# Altium integrated library Infineon_Power_MOSFET.IntLib: 1448 symbols (part 25 of 47)
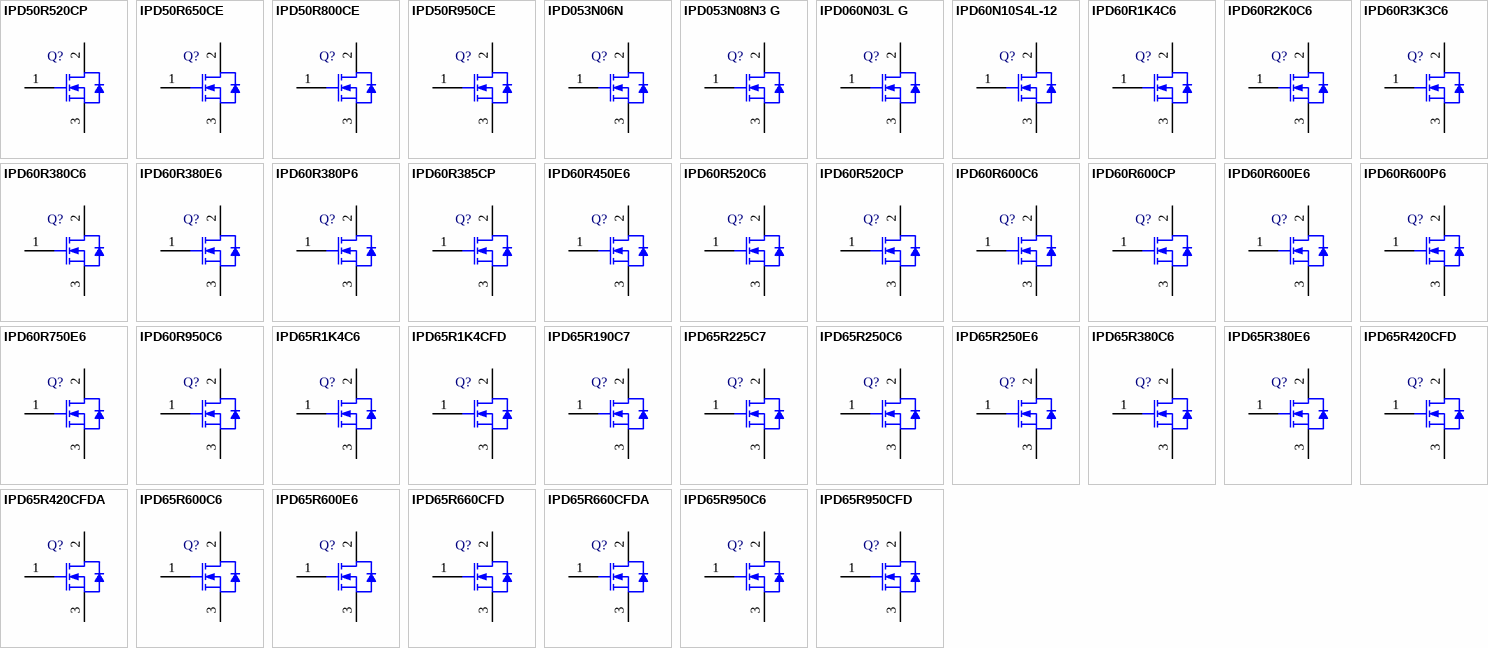
[diagram p61: symbols IPD50R520CP to IPD65R950CFD]

## IPD65R250E6
designator Q?
N-Channel CoolMOS E6 Power-Transistor, 650 V VDS, 16.1 A ID, -55 to 150 degC, PG-TO252-3-1, Reel, Green; Manufacturer: Infineon; PartNumber: IPD65R250E6; Green: TRUE; ID (max): 16.1 A; IDpuls (max): 46 A; Polarity: N; Ptot (max): 208 W; QG: 45 nC; RDS (on) (max): 250 mOhm; Rth: 0.6 K/W; RthJA (max): 62 K/W; VDS (max): 650 V; VGS(th) (max): 3.5 V; VGS(th) (min): 2.5 V; DatasheetVersion: Rev. 2.1; PackageVersion: Jan-10; PackageReference: PG-TO252-3-1; PackageDescription: 3-Pin Plastic (Green) Transistor Single Outline Package, 6.5 x 6.12 mm Body, 2.28 mm Pitch; Halogen-free: TRUE; Packing: Reel; RthJC (max): 0.6 K/W; Technology: CoolMOS E6; Mounting Technology: Surface Mount; ComponentLink1Description: Manufacturer URL; ComponentLink1URL: http://www.infineon.com/; ComponentLink2Description: Datasheet; ComponentLink2URL: http://www.infineon.com/dgdl/DS_IPD65R250E6_2_1.pdf?folderId=db3a3043156fd5730115c736bcc70ff2&fileId=db3a3043337a914d0133837a062760b2; ComponentLink3Description: Package Specification; ComponentLink3URL: http://www.infineon.com/dgdl/TLE42744_DS_11.pdf?folderId=db3a304318f3fe290118f5a433570040&fileId=db3a304327b897500128012ccafe37d2&sId=db3a30443d67b5ca013d83f7c0ea327b
footprint INF-PG-TO252-3-1_N (DPAK, 3-Leads, Body 6.525x6.12mm, Pitch 2.28mm, IPC Medium Density)
footprint INF-PG-TO252-3-1_L (DPAK, 3-Leads, Body 6.525x6.12mm, Pitch 2.28mm, IPC High Density)
footprint INF-PG-TO252-3-1_M (DPAK, 3-Leads, Body 6.525x6.12mm, Pitch 2.28mm, IPC Low Density)
pins: 1 GATE, 2 DRAIN, 3 SOURCE

## IPD65R380C6
designator Q?
N-Channel CoolMOS C6 Power-Transistor, 650 V VDS, 10.6 A ID, -55 to150 degC, PG-TO252-3-1, Reel, Green; Manufacturer: Infineon; PartNumber: IPD65R380C6; Green: TRUE; ID (max): 10.6 A; IDpuls (max): 29 A; Polarity: N; Ptot (max): 83 W; QG: 39 nC; RDS (on) (max): 380 mOhm; Rth: 1.5 K/W; RthJA (max): 62 K/W; VDS (max): 650 V; VGS(th) (max): 3.5 V; VGS(th) (min): 2.5 V; DatasheetVersion: Rev. 2.1; PackageVersion: Jan-10; PackageReference: PG-TO252-3-1; PackageDescription: 3-Pin Plastic (Green) Transistor Single Outline Package, 6.5 x 6.12 mm Body, 2.28 mm Pitch; Supplier 1: Mouser; Supplier Part Number 1: 726-IPD65R380C6; Supplier 2: Digi-Key; Supplier Part Number 2: IPD65R380C6TR-ND; Supplier 3: Digi-Key; Supplier Part Number 3: IPD65R380C6CT-ND; Supplier 4: Digi-Key; Supplier Part Number 4: IPD65R380C6DKR-ND; Packing: Reel; RthJC (max): 1.5 K/W; Technology: CoolMOS C6; Mounting Technology: Surface Mount; ComponentLink1Description: Manufacturer URL; ComponentLink1URL: http://www.infineon.com/; ComponentLink2Description: Datasheet; ComponentLink2URL: http://www.infineon.com/dgdl/IPD65R380C6+2.1.pdf?folderId=db3a3043163797a6011637d4bae7003b&fileId=db3a30432ba3fa6f012bf2b37bea77af; ComponentLink3Description: Package Specification; ComponentLink3URL: http://www.infineon.com/dgdl/TLE42744_DS_11.pdf?folderId=db3a304318f3fe290118f5a433570040&fileId=db3a304327b897500128012ccafe37d2&sId=db3a30443d67b5ca013d83f7c0ea327b
footprint INF-PG-TO252-3-1_N (DPAK, 3-Leads, Body 6.525x6.12mm, Pitch 2.28mm, IPC Medium Density)
footprint INF-PG-TO252-3-1_L (DPAK, 3-Leads, Body 6.525x6.12mm, Pitch 2.28mm, IPC High Density)
footprint INF-PG-TO252-3-1_M (DPAK, 3-Leads, Body 6.525x6.12mm, Pitch 2.28mm, IPC Low Density)
pins: 1 GATE, 2 DRAIN, 3 SOURCE

## IPD65R380E6
designator Q?
N-Channel CoolMOS E6 Power-Transistor, 650 V VDS, 10.6 A ID, -55 to150 degC, PG-TO252-3-1, Reel, Green; Manufacturer: Infineon; PartNumber: IPD65R380E6; Green: TRUE; ID (max): 10.6 A; IDpuls (max): 29 A; Polarity: N; Ptot (max): 83 W; QG: 39 nC; RDS (on) (max): 380 mOhm; Rth: 1.5 K/W; RthJA (max): 62 K/W; VDS (max): 650 V; VGS(th) (max): 3.5 V; VGS(th) (min): 2.5 V; DatasheetVersion: Rev. 2.0; PackageVersion: Jan-10; PackageReference: PG-TO252-3-1; PackageDescription: 3-Pin Plastic (Green) Transistor Single Outline Package, 6.5 x 6.12 mm Body, 2.28 mm Pitch; Supplier 1: Mouser; Supplier Part Number 1: 726-IPD65R380E6; Supplier 2: Digi-Key; Supplier Part Number 2: IPD65R380E6TR-ND; Supplier 3: Digi-Key; Supplier Part Number 3: IPD65R380E6CT-ND; Supplier 4: Digi-Key; Supplier Part Number 4: IPD65R380E6DKR-ND; Packing: Reel; RthJC (max): 1.5 K/W; Technology: CoolMOS E6; Mounting Technology: Surface Mount; ComponentLink1Description: Manufacturer URL; ComponentLink1URL: http://www.infineon.com/; ComponentLink2Description: Datasheet; ComponentLink2URL: http://www.infineon.com/dgdl/IPD65R380E6_2_0.pdf?folderId=db3a3043163797a6011637d4bae7003b&fileId=db3a304328c6bd5c012916c7dabd333f; ComponentLink3Description: Package Specification; ComponentLink3URL: http://www.infineon.com/dgdl/TLE42744_DS_11.pdf?folderId=db3a304318f3fe290118f5a433570040&fileId=db3a304327b897500128012ccafe37d2&sId=db3a30443d67b5ca013d83f7c0ea327b
footprint INF-PG-TO252-3-1_N (DPAK, 3-Leads, Body 6.525x6.12mm, Pitch 2.28mm, IPC Medium Density)
footprint INF-PG-TO252-3-1_L (DPAK, 3-Leads, Body 6.525x6.12mm, Pitch 2.28mm, IPC High Density)
footprint INF-PG-TO252-3-1_M (DPAK, 3-Leads, Body 6.525x6.12mm, Pitch 2.28mm, IPC Low Density)
pins: 1 GATE, 2 DRAIN, 3 SOURCE

## IPD65R420CFD
designator Q?
N-Channel CoolMOS Power-Transistor, 650 V VDS, 8.7 A ID, -55 to 150 degC, PG-TO252-3-1, Reel, Green; Manufacturer: Infineon; PartNumber: IPD65R420CFD; Green: TRUE; ID (max): 8.7 A; IDpuls (max): 27 A; Polarity: N; QG: 32 nC; RDS (on) (max): 420 mOhm; Rth: 1.5 K/W; RthJA (max): 62 K/W; VDS (max): 650 V; VGS(th) (max): 4.5 V; VGS(th) (min): 3.5 V; DatasheetVersion: Rev. 2.4; PackageVersion: Jan-10; PackageReference: PG-TO252-3-1; PackageDescription: 3-Pin Plastic (Green) Transistor Single Outline Package, 6.5 x 6.12 mm Body, 2.28 mm Pitch; Supplier 1: Mouser; Supplier Part Number 1: 726-IPD65R420CFD; Supplier 2: Digi-Key; Supplier Part Number 2: IPD65R420CFDTR-ND; Supplier 3: Digi-Key; Supplier Part Number 3: IPD65R420CFDCT-ND; Supplier 4: Digi-Key; Supplier Part Number 4: IPD65R420CFDDKR-ND; Packing: Reel; RthJC (max): 1.5 K/W; Technology: CoolMOS CFD2; Mounting Technology: Surface Mount; ComponentLink1Description: Manufacturer URL; ComponentLink1URL: http://www.infineon.com/; ComponentLink2Description: Datasheet; ComponentLink2URL: http://www.infineon.com/dgdl/DS_IPX65R420CFD_2_4.pdf?folderId=db3a3043156fd5730115c736bcc70ff2&fileId=db3a30432f91014f012f9c293f1a7399; ComponentLink3Description: Package Specification; ComponentLink3URL: http://www.infineon.com/dgdl/TLE42744_DS_11.pdf?folderId=db3a304318f3fe290118f5a433570040&fileId=db3a304327b897500128012ccafe37d2&sId=db3a30443d67b5ca013d83f7c0ea327b
footprint INF-PG-TO252-3-1_N (DPAK, 3-Leads, Body 6.525x6.12mm, Pitch 2.28mm, IPC Medium Density)
footprint INF-PG-TO252-3-1_L (DPAK, 3-Leads, Body 6.525x6.12mm, Pitch 2.28mm, IPC High Density)
footprint INF-PG-TO252-3-1_M (DPAK, 3-Leads, Body 6.525x6.12mm, Pitch 2.28mm, IPC Low Density)
pins: 1 GATE, 2 DRAIN, 3 SOURCE

## IPD65R420CFDA
designator Q?
N-Channel CoolMOS(TM) CFDA Power Transistor, 650 V VDS, -40 to 150 degC, PG-TO252-3, Reel, Green; Manufacturer: Infineon; PartNumber: IPD65R420CFDA; Green: TRUE; Polarity: FALSE; RDS (on) (max): 420 mOhm; VDS (max): 650 V; DatasheetVersion: Rev. 2.0; PackageVersion: Rev. 2.2, 04/2007; PackageReference: PG-TO252-3-1_A; PackageDescription: 3-Pin Plastic (Green) Transistor Single Outline Package, 6.565 x 6.1 mm, 2.28 mm Pitch; Halogen-free: TRUE; Packing: Reel; Mounting Technology: Surface Mount; ComponentLink1Description: Manufacturer URL; ComponentLink1URL: http://www.infineon.com/; ComponentLink2Description: Datasheet; ComponentLink2URL: http://www.infineon.com/dgdl/DS_IPD65R420CFDA_final+2+0.pdf?folderId=db3a3043156fd5730115c736bcc70ff2&fileId=db3a30433ea3aef6013eac59c2420dff; ComponentLink3Description: Package Specification; ComponentLink3URL: http://www.infineon.com/dgdl/IDD03E60Grev2_2.pdf?folderId=db3a304412b407950112b438b4176b74&fileId=db3a304412b407950112b438b49f6b75
footprint INF-PG-TO252-3-1_A_N (DPAK, 3-Leads, Body 6.565x6.1mm, Pitch 2.28mm, IPC Medium Density)
footprint INF-PG-TO252-3-1_A_L (DPAK, 3-Leads, Body 6.565x6.095mm, Pitch 2.29mm, IPC High Density)
footprint INF-PG-TO252-3-1_A_M (DPAK, 3-Leads, Body 6.565x6.095mm, Pitch 2.29mm, IPC Low Density)
pins: 1 GATE, 2 DRAIN, 3 SOURCE

## IPD65R600C6
designator Q?
N-Channel CoolMOS C6 Power-Transistor, 650 V VDS, 7.3 A ID, -55 to 150 degC, PG-TO252-3-1, Reel, Green; Manufacturer: Infineon; PartNumber: IPD65R600C6; Green: TRUE; ID (max): 7.3 A; IDpuls (max): 18 A; Polarity: N; Ptot (max): 63 W; QG: 23 nC; RDS (on) (max): 600 mOhm; Rth: 2 K/W; RthJA (max): 62 K/W; VDS (max): 650 V; VGS(th) (max): 3.5 V; VGS(th) (min): 2.5 V; DatasheetVersion: Rev. 2.0; PackageVersion: Jan-10; PackageReference: PG-TO252-3-1; PackageDescription: 3-Pin Plastic (Green) Transistor Single Outline Package, 6.5 x 6.12 mm Body, 2.28 mm Pitch; Supplier 1: Mouser; Supplier Part Number 1: 726-IPD65R600C6; Supplier 2: Digi-Key; Supplier Part Number 2: IPD65R600C6TR-ND; Supplier 3: Digi-Key; Supplier Part Number 3: IPD65R600C6CT-ND; Supplier 4: Digi-Key; Supplier Part Number 4: IPD65R600C6DKR-ND; Packing: Reel; RthJC (max): 2 K/W; Technology: CoolMOS C6; Mounting Technology: Surface Mount; ComponentLink1Description: Manufacturer URL; ComponentLink1URL: http://www.infineon.com/; ComponentLink2Description: Datasheet; ComponentLink2URL: http://www.infineon.com/dgdl/IPD65R600C6_2_0.pdf?folderId=db3a3043163797a6011637d4bae7003b&fileId=db3a30432ac1eb91012ac73a59602c4f; ComponentLink3Description: Package Specification; ComponentLink3URL: http://www.infineon.com/dgdl/TLE42744_DS_11.pdf?folderId=db3a304318f3fe290118f5a433570040&fileId=db3a304327b897500128012ccafe37d2&sId=db3a30443d67b5ca013d83f7c0ea327b
footprint INF-PG-TO252-3-1_N (DPAK, 3-Leads, Body 6.525x6.12mm, Pitch 2.28mm, IPC Medium Density)
footprint INF-PG-TO252-3-1_L (DPAK, 3-Leads, Body 6.525x6.12mm, Pitch 2.28mm, IPC High Density)
footprint INF-PG-TO252-3-1_M (DPAK, 3-Leads, Body 6.525x6.12mm, Pitch 2.28mm, IPC Low Density)
pins: 1 GATE, 2 DRAIN, 3 SOURCE

## IPD65R600E6
designator Q?
N-Channel CoolMOS E6 Power-Transistor, 650 V VDS, 7.3 A ID, -55 to 150 degC, PG-TO252-3-1, Reel, Green; Manufacturer: Infineon; PartNumber: IPD65R600E6; Green: TRUE; ID (max): 7.3 A; IDpuls (max): 18 A; Polarity: N; Ptot (max): 63 W; QG: 23 nC; RDS (on) (max): 600 mOhm; Rth: 2 K/W; RthJA (max): 62 K/W; VDS (max): 650 V; VGS(th) (max): 3.5 V; VGS(th) (min): 2.5 V; DatasheetVersion: Rev. 2.0; PackageVersion: Jan-10; PackageReference: PG-TO252-3-1; PackageDescription: 3-Pin Plastic (Green) Transistor Single Outline Package, 6.5 x 6.12 mm Body, 2.28 mm Pitch; Supplier 1: Mouser; Supplier Part Number 1: 726-IPD65R600E6; Supplier 2: Digi-Key; Supplier Part Number 2: IPD65R600E6TR-ND; Supplier 3: Digi-Key; Supplier Part Number 3: IPD65R600E6CT-ND; Supplier 4: Digi-Key; Supplier Part Number 4: IPD65R600E6DKR-ND; Halogen-free: TRUE; Packing: Reel; RthJC (max): 2 K/W; Technology: CoolMOS E6; Mounting Technology: Surface Mount; ComponentLink1Description: Manufacturer URL; ComponentLink1URL: http://www.infineon.com/; ComponentLink2Description: Datasheet; ComponentLink2URL: http://www.infineon.com/dgdl/IPD65R600E6_2_0.pdf?folderId=db3a3043163797a6011637d4bae7003b&fileId=db3a304329a0f6ee0129d1652ab10630; ComponentLink3Description: Package Specification; ComponentLink3URL: http://www.infineon.com/dgdl/TLE42744_DS_11.pdf?folderId=db3a304318f3fe290118f5a433570040&fileId=db3a304327b897500128012ccafe37d2&sId=db3a30443d67b5ca013d83f7c0ea327b
footprint INF-PG-TO252-3-1_N (DPAK, 3-Leads, Body 6.525x6.12mm, Pitch 2.28mm, IPC Medium Density)
footprint INF-PG-TO252-3-1_L (DPAK, 3-Leads, Body 6.525x6.12mm, Pitch 2.28mm, IPC High Density)
footprint INF-PG-TO252-3-1_M (DPAK, 3-Leads, Body 6.525x6.12mm, Pitch 2.28mm, IPC Low Density)
pins: 1 GATE, 2 DRAIN, 3 SOURCE

## IPD65R660CFD
designator Q?
N-Channel CoolMOS CFD2 Power-Transistor, 650 V VDS, 6 A ID, -55 to 150 degC, PG-TO252-3-1, Reel, Green; Manufacturer: Infineon; PartNumber: IPD65R660CFD; Green: TRUE; ID (max): 6 A; IDpuls (max): 17 A; Polarity: N; Ptot (max): 62.5 W; QG: 22 nC; RDS (on) (max): 660 mOhm; Rth: 2 K/W; RthJA (max): 62 K/W; VDS (max): 650 V; VGS(th) (max): 4.5 V; VGS(th) (min): 3.5 V; DatasheetVersion: Rev. 2.5; PackageVersion: Jan-10; PackageReference: PG-TO252-3-1; PackageDescription: 3-Pin Plastic (Green) Transistor Single Outline Package, 6.5 x 6.12 mm Body, 2.28 mm Pitch; Supplier 1: Mouser; Supplier Part Number 1: 726-IPD65R660CFD; Supplier 2: Digi-Key; Supplier Part Number 2: IPD65R660CFD-ND; Packing: Reel; RthJC (max): 2 K/W; Technology: CoolMOS CFD2; Mounting Technology: Surface Mount; ComponentLink1Description: Manufacturer URL; ComponentLink1URL: http://www.infineon.com/; ComponentLink2Description: Datasheet; ComponentLink2URL: http://www.infineon.com/dgdl/DS_IPX65R660CFD_2_5.pdf?folderId=db3a3043163797a6011637d4e912003c&fileId=db3a30432e0bea21012e14dccc656df9; ComponentLink3Description: Package Specification; ComponentLink3URL: http://www.infineon.com/dgdl/TLE42744_DS_11.pdf?folderId=db3a304318f3fe290118f5a433570040&fileId=db3a304327b897500128012ccafe37d2&sId=db3a30443d67b5ca013d83f7c0ea327b
footprint INF-PG-TO252-3-1_N (DPAK, 3-Leads, Body 6.525x6.12mm, Pitch 2.28mm, IPC Medium Density)
footprint INF-PG-TO252-3-1_L (DPAK, 3-Leads, Body 6.525x6.12mm, Pitch 2.28mm, IPC High Density)
footprint INF-PG-TO252-3-1_M (DPAK, 3-Leads, Body 6.525x6.12mm, Pitch 2.28mm, IPC Low Density)
pins: 1 GATE, 2 DRAIN, 3 SOURCE

## IPD65R660CFDA
designator Q?
N-Channel CoolMOS(TM) CFDA Power Transistor, 650 V VDS, -40 to 150 degC, PG-TO252-3, Reel, Green; Manufacturer: Infineon; PartNumber: IPD65R660CFDA; Green: TRUE; Polarity: FALSE; RDS (on) (max): 660 mOhm; VDS (max): 650 V; DatasheetVersion: Rev. 2.0; PackageVersion: Rev. 2.2, 04/2007; PackageReference: PG-TO252-3-1_A; PackageDescription: 3-Pin Plastic (Green) Transistor Single Outline Package, 6.565 x 6.1 mm, 2.28 mm Pitch; Halogen-free: TRUE; Packing: Reel; Mounting Technology: Surface Mount; ComponentLink1Description: Manufacturer URL; ComponentLink1URL: http://www.infineon.com/; ComponentLink2Description: Datasheet; ComponentLink2URL: http://www.infineon.com/dgdl/DS_IPD65R660CFDA_final+2+0.pdf?folderId=db3a3043156fd5730115c736bcc70ff2&fileId=db3a30433f764301013f7bd7d66028c6; ComponentLink3Description: Package Specification; ComponentLink3URL: http://www.infineon.com/dgdl/IDD03E60Grev2_2.pdf?folderId=db3a304412b407950112b438b4176b74&fileId=db3a304412b407950112b438b49f6b75
footprint INF-PG-TO252-3-1_A_N (DPAK, 3-Leads, Body 6.565x6.1mm, Pitch 2.28mm, IPC Medium Density)
footprint INF-PG-TO252-3-1_A_L (DPAK, 3-Leads, Body 6.565x6.095mm, Pitch 2.29mm, IPC High Density)
footprint INF-PG-TO252-3-1_A_M (DPAK, 3-Leads, Body 6.565x6.095mm, Pitch 2.29mm, IPC Low Density)
pins: 1 GATE, 2 DRAIN, 3 SOURCE

## IPD65R950C6
designator Q?
N-Channel CoolMOS(TM) C6 Power Transistor, 650 V VDS, -55 to 150 degC, PG-TO252-3, Reel, Green; Manufacturer: Infineon; PartNumber: IPD65R950C6; Green: TRUE; Polarity: FALSE; RDS (on) (max): 950 mOhm; VDS (max): 650 V; DatasheetVersion: Rev. 2.0; PackageVersion: Rev. 2.2, 04/2007; PackageReference: PG-TO252-3-1_A; PackageDescription: 3-Pin Plastic (Green) Transistor Single Outline Package, 6.565 x 6.1 mm, 2.28 mm Pitch; Supplier 1: Mouser; Supplier Part Number 1: N/A; Halogen-free: TRUE; Packing: Reel; Mounting Technology: Surface Mount; ComponentLink1Description: Manufacturer URL; ComponentLink1URL: http://www.infineon.com/; ComponentLink2Description: Datasheet; ComponentLink2URL: http://www.infineon.com/dgdl/DS_IPD65R950C6_2_0.pdf?folderId=db3a3043156fd5730115c736bcc70ff2&fileId=db3a304340155f3d014034e6f48e4b94; ComponentLink3Description: Package Specification; ComponentLink3URL: http://www.infineon.com/dgdl/IDD03E60Grev2_2.pdf?folderId=db3a304412b407950112b438b4176b74&fileId=db3a304412b407950112b438b49f6b75
footprint INF-PG-TO252-3-1_A_N (DPAK, 3-Leads, Body 6.565x6.1mm, Pitch 2.28mm, IPC Medium Density)
footprint INF-PG-TO252-3-1_A_L (DPAK, 3-Leads, Body 6.565x6.095mm, Pitch 2.29mm, IPC High Density)
footprint INF-PG-TO252-3-1_A_M (DPAK, 3-Leads, Body 6.565x6.095mm, Pitch 2.29mm, IPC Low Density)
pins: 1 GATE, 2 DRAIN, 3 SOURCE

## IPD65R950CFD
designator Q?
N-Channel CoolMOS CFD2 Power-Transistor, 650 V VDS, 3.9 A ID, -55 to 150 degC, PG-TO252-3-1, Reel, Green; Manufacturer: Infineon; PartNumber: IPD65R950CFD; Green: TRUE; ID (max): 3.9 A; IDpuls (max): 11 A; Polarity: N; Ptot (max): 36.7 W; QG: 14.1 nC; RDS (on) (max): 950 mOhm; Rth: 3.4 K/W; RthJA (max): 62 K/W; VDS (max): 650 V; VGS(th) (max): 4.5 V; VGS(th) (min): 3.5 V; DatasheetVersion: Rev. 2.0; PackageVersion: Jan-10; PackageReference: PG-TO252-3-1; PackageDescription: 3-Pin Plastic (Green) Transistor Single Outline Package, 6.5 x 6.12 mm Body, 2.28 mm Pitch; Packing: Reel; RthJC (max): 3.4 K/W; Technology: CoolMOS CFD2; Mounting Technology: Surface Mount; ComponentLink1Description: Manufacturer URL; ComponentLink1URL: http://www.infineon.com/; ComponentLink2Description: Datasheet; ComponentLink2URL: http://www.infineon.com/dgdl/DS_IPD65R950CFD_2_0.pdf?folderId=db3a30432313ff5e0123a8557b1c5ba2&fileId=db3a3043397b22f00139902e85ae4bd3; ComponentLink3Description: Package Specification; ComponentLink3URL: http://www.infineon.com/dgdl/TLE42744_DS_11.pdf?folderId=db3a304318f3fe290118f5a433570040&fileId=db3a304327b897500128012ccafe37d2&sId=db3a30443d67b5ca013d83f7c0ea327b
footprint INF-PG-TO252-3-1_N (DPAK, 3-Leads, Body 6.525x6.12mm, Pitch 2.28mm, IPC Medium Density)
footprint INF-PG-TO252-3-1_L (DPAK, 3-Leads, Body 6.525x6.12mm, Pitch 2.28mm, IPC High Density)
footprint INF-PG-TO252-3-1_M (DPAK, 3-Leads, Body 6.525x6.12mm, Pitch 2.28mm, IPC Low Density)
pins: 1 GATE, 2 DRAIN, 3 SOURCE

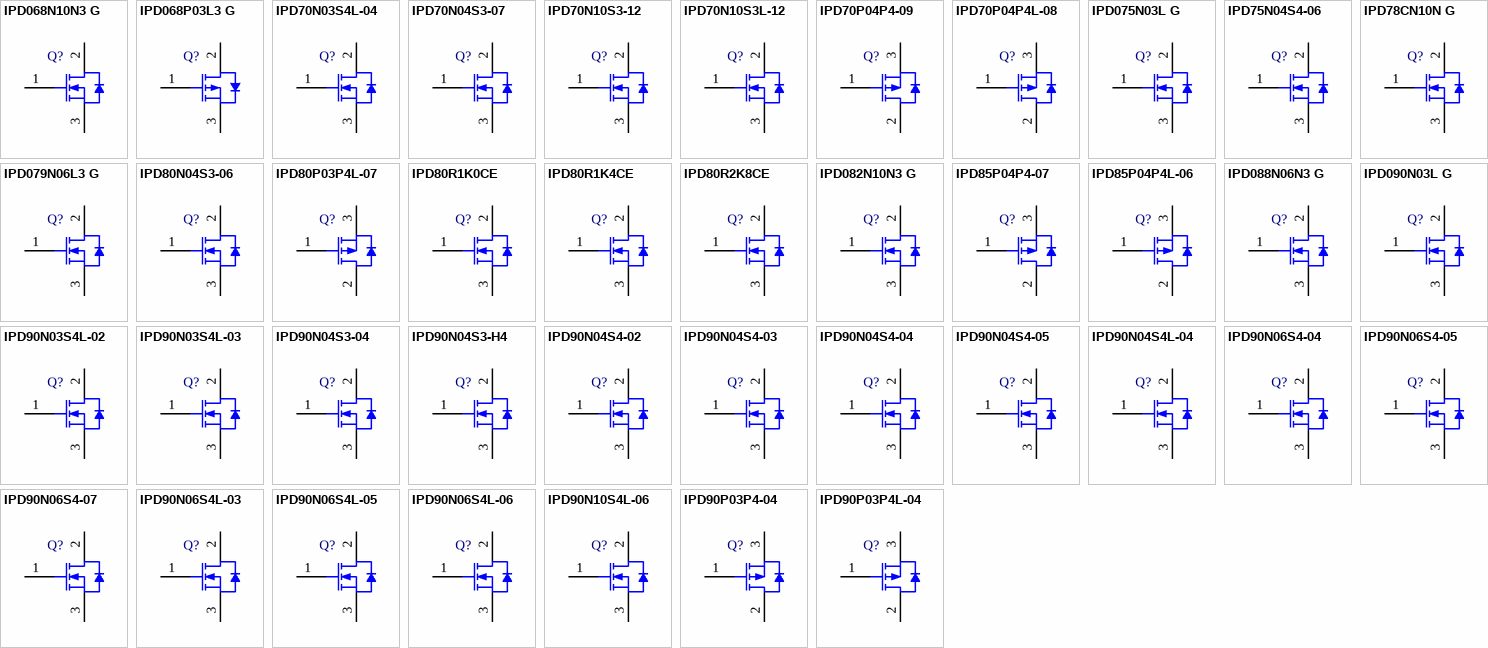
[diagram p19: symbols IPD068N10N3 G to IPD90P03P4L-04]

## IPD068N10N3 G
designator Q?
N-Channel OptiMOS 3 Power-Transistor, 100 V VDS, 90 A ID, -55 to 175 degC, PG-TO252-3-11, Reel, Green; Manufacturer: Infineon; PartNumber: IPD068N10N3 G; Green: TRUE; ID (max): 90 A; IDpuls (max): 360 A; Polarity: N; Ptot (max): 150 W; QG: 51 nC; RDS (on) (max): 6.8 mOhm; Rth: 1 K/W; RthJA (max): 62 K/W; RthJC (max): 1 K/W; VDS (max): 100 V; VGS(th) (max): 3.5 V; VGS(th) (min): 2 V; DatasheetVersion: Rev. 2.1; PackageVersion: Rev. 02, 03/2007; PackageReference: PG-TO252-3-11; PackageDescription: 3-Pin Plastic (Green) Transistor Single Outline Package, 6.57 x 6.1 mm Body, 2.29 mm Pitch; Supplier 1: Mouser; Supplier Part Number 1: 726-IPD068N10N3G; Supplier 2: Digi-Key; Supplier Part Number 2: IPD068N10N3 G-ND; Packing: Reel; Mounting Technology: Surface Mount; ComponentLink1Description: Manufacturer URL; ComponentLink1URL: http://www.infineon.com/; ComponentLink2Description: Datasheet; ComponentLink2URL: http://www.infineon.com/dgdl/IPD068N10N3+G_Rev2.1.pdf?folderId=db3a304313b8b5a60113cee8763b02d7&fileId=db3a30431ce5fb52011d1eb7aeb615d1; ComponentLink3Description: Package Specification; ComponentLink3URL: http://www.infineon.com/dgdl/IPD160N04L_rev1.0.pdf?folderId=db3a3043163797a6011643468e7505a4&fileId=db3a3043163797a60116436401cf05cf
footprint INF-PG-TO252-3-11_A_N (DPAK, 3-Leads, Body 6.57x6.1mm, Pitch 2.29mm, IPC Medium Density)
footprint INF-PG-TO252-3-11_A_L (DPAK, 3-Leads, Body 6.57x6.1mm, Pitch 2.29mm, IPC High Density)
footprint INF-PG-TO252-3-11_A_M (DPAK, 3-Leads, Body 6.57x6.1mm, Pitch 2.29mm, IPC Low Density)
pins: 1 GATE, 2 DRAIN, 3 SOURCE

## IPD068P03L3 G
designator Q?
P-Channel OptiMOS P3 Power-Transistor, -30 V VDS, -70 A ID, -55 to 175 degC, PG-TO252-3-1, Reel, Green; Manufacturer: Infineon; PartNumber: IPD068P03L3 G; Green: TRUE; ID (max): -70 A; IDpuls (max): -280 A; Pto t (max): 100 W; QG: 68 nC; RDS (on) (max): 6.8 mOhm; RDS (on) (max) (@4.5V): 11 mOhm; Rth: 1.5 K/W; RthJC (max): 1.5 K/W; VDS (max): -30 V; VGS(th) (max): -2 V; VGS(th) (min): -1 V; DatasheetVersion: Rev. 2.0; PackageVersion: Jan-10; PackageReference: PG-TO252-3-1; PackageDescription: 3-Pin Plastic (Green) Transistor Single Outline Package, 6.5 x 6.12 mm Body, 2.28 mm Pitch; Supplier 1: Mouser; Supplier Part Number 1: 726-IPD068P03L3G; Supplier 2: Digi-Key; Supplier Part Number 2: IPD068P03L3 GTR-ND; Supplier 3: Digi-Key; Supplier Part Number 3: IPD068P03L3 GCT-ND; Supplier 4: Digi-Key; Supplier Part Number 4: IPD068P03L3 GDKR-ND; Packing: Reel; Mounting Technology: Surface Mount; ComponentLink1Description: Manufacturer URL; ComponentLink1URL: http://www.infineon.com/; ComponentLink2Description: Datasheet; ComponentLink2URL: http://www.infineon.com/dgdl/IPD068P03L3+G_2+0.pdf?folderId=db3a304314dca38901154a7313d21a66&fileId=db3a30432313ff5e01232cc234f07d94; ComponentLink3Description: Package Specification; ComponentLink3URL: http://www.infineon.com/dgdl/TLE42744_DS_11.pdf?folderId=db3a304318f3fe290118f5a433570040&fileId=db3a304327b897500128012ccafe37d2&sId=db3a30443d67b5ca013d83f7c0ea327b
footprint INF-PG-TO252-3-1_N (DPAK, 3-Leads, Body 6.525x6.12mm, Pitch 2.28mm, IPC Medium Density)
footprint INF-PG-TO252-3-1_L (DPAK, 3-Leads, Body 6.525x6.12mm, Pitch 2.28mm, IPC High Density)
footprint INF-PG-TO252-3-1_M (DPAK, 3-Leads, Body 6.525x6.12mm, Pitch 2.28mm, IPC Low Density)
pins: 1 GATE, 2 DRAIN, 3 SOURCE

## IPD70N03S4L-04
designator Q?
OptiMOS-T2 Power-Transistor, 30 V VDS, 70 A ID, PG-TO252-3-11, Reel, Green; Manufacturer: Infineon; PartNumber: IPD70N03S4L-04; Green: TRUE; ID (max): 70 A; IDpuls (max): 280 A; Ptot (max): 68 W; QG: 37 nC; RDS (on) (max) (@10V): 4.3 mOhm; RDS (on) (max) (@4.5V): 5.7 mOhm; RthJC (max): 2.2 K/W; VDS (max): 30 V; VGS(th) (max): 2.2 V; VGS(th) (min): 1 V; DatasheetVersion: Rev. 2.0; PackageVersion: Dec-06; PackageReference: PG-TO252-3-11; PackageDescription: 3-Pin Plastic (Green) Transistor Single Outline Package, 6.5 x 6.12 mm Body, 2.28 mm Pitch; Supplier 1: Mouser; Supplier Part Number 1: 726-IPD70N03S4L-04; Supplier 2: Digi-Key; Supplier Part Number 2: IPD70N03S4L-04TR-ND; Supplier 3: Digi-Key; Supplier Part Number 3: IPD70N03S4L-04CT-ND; Supplier 4: Digi-Key; Supplier Part Number 4: IPD70N03S4L-04DKR-ND; Halogen-free: TRUE; Packing: Reel; Technology: OptiMOS-T2; Mounting Technology: Surface Mount; ComponentLink1Description: Manufacturer URL; ComponentLink1URL: http://www.infineon.com/; ComponentLink2Description: Datasheet; ComponentLink2URL: http://www.infineon.com/dgdl/IPD70N03S4L-04_DS_2_0.pdf?folderId=db3a304412b407950112b426f7da3b27&fileId=db3a304412b407950112b4271cfb3b9f&location=en.Products.Automotive_ICs.Automotive_MOSFETs.Single__N-Channel_30V_MOSFETs.DATASHEET.IPD70N03S4L-04_DS_2_0.pdf; ComponentLink3Description: Package Specification; ComponentLink3URL: http://www.infineon.com/dgdl/BTS142_DS_13.pdf?folderId=db3a3043163797a6011667aa084c0e01&fileId=db3a3043163797a6011667ac98be0e02&location=en.Products.Automotive_ICs.Smart_High-_and_Low-Side_Switches.HITFET___TEMPFET__-_Smart_Low-Side_Switches.DATASHEET.BTS142_DS_13.pdf
footprint INF-PG-TO252-3-11_N (DPAK, 3-Leads, Body 6.5x6.12mm, Pitch 2.28mm, IPC Medium Density)
footprint INF-PG-TO252-3-11_L (DPAK, 3-Leads, Body 6.5x6.12mm, Pitch 2.28mm, IPC High Density)
footprint INF-PG-TO252-3-11_M (DPAK, 3-Leads, Body 6.5x6.12mm, Pitch 2.28mm, IPC Low Density)
pins: 1 GATE, 2 DRAIN, 3 SOURCE

## IPD70N04S3-07
designator Q?
OptiMOS-T Power-Transistor, 40 V VDS, 82 A ID, PG-TO252-3-11, Reel, Green; Manufacturer: Infineon; PartNumber: IPD70N04S3-07; Green: TRUE; ID (max): 82 A; IDpuls (max): 280 A; Ptot (max): 79 W; QG: 30 nC; RDS (on) (max) (@10V): 6 mOhm; RthJC (max): 1.9 K/W; VDS (max): 40 V; VGS(th) (max): 4 V; VGS(th) (min): 2.1 V; DatasheetVersion: Rev. 1.0; PackageVersion: Dec-06; PackageReference: PG-TO252-3-11; PackageDescription: 3-Pin Plastic (Green) Transistor Single Outline Package, 6.5 x 6.12 mm Body, 2.28 mm Pitch; Supplier 1: Mouser; Supplier Part Number 1: 726-IPD70N04S3-07; Supplier 2: Digi-Key; Supplier Part Number 2: IPD70N04S3-07TR-ND; Supplier 3: Digi-Key; Supplier Part Number 3: IPD70N04S3-07CT-ND; Supplier 4: Digi-Key; Supplier Part Number 4: IPD70N04S3-07DKR-ND; Halogen-free: TRUE; Packing: Reel; Technology: OptiMOS-T; Mounting Technology: Surface Mount; ComponentLink1Description: Manufacturer URL; ComponentLink1URL: http://www.infineon.com/; ComponentLink2Description: Datasheet; ComponentLink2URL: http://www.infineon.com/dgdl/IPD70N04S3-07_DS_1_0.pdf?folderId=db3a304412b407950112b42b75b74520&fileId=db3a304412b407950112b42ba99545d0&location=en.Products.Automotive_ICs.Automotive_MOSFETs.Single__N-Channel_40V_MOSFETs.DATASHEET.IPD70N04S3-07_DS_1_0.pdf; ComponentLink3Description: Package Specification; ComponentLink3URL: http://www.infineon.com/dgdl/BTS142_DS_13.pdf?folderId=db3a3043163797a6011667aa084c0e01&fileId=db3a3043163797a6011667ac98be0e02&location=en.Products.Automotive_ICs.Smart_High-_and_Low-Side_Switches.HITFET___TEMPFET__-_Smart_Low-Side_Switches.DATASHEET.BTS142_DS_13.pdf
footprint INF-PG-TO252-3-11_N (DPAK, 3-Leads, Body 6.5x6.12mm, Pitch 2.28mm, IPC Medium Density)
footprint INF-PG-TO252-3-11_L (DPAK, 3-Leads, Body 6.5x6.12mm, Pitch 2.28mm, IPC High Density)
footprint INF-PG-TO252-3-11_M (DPAK, 3-Leads, Body 6.5x6.12mm, Pitch 2.28mm, IPC Low Density)
pins: 1 GATE, 2 DRAIN, 3 SOURCE

## IPD70N10S3-12
designator Q?
OptiMOS-T Power-Transistor, 100 V VDS, 70 A ID, PG-TO252-3-11, Reel, Green; Manufacturer: Infineon; PartNumber: IPD70N10S3-12; Green: TRUE; ID (max): 70 A; IDpuls (max): 280 A; Ptot (max): 125 W; QG: 51 nC; RDS (on) (max) (@10V): 11.1 mOhm; RthJC (max): 1.2 K/W; VDS (max): 100 V; VGS(th) (max): 4 V; VGS(th) (min): 2 V; DatasheetVersion: Rev. 1.1; PackageVersion: Dec-06; PackageReference: PG-TO252-3-11; PackageDescription: 3-Pin Plastic (Green) Transistor Single Outline Package, 6.5 x 6.12 mm Body, 2.28 mm Pitch; Supplier 1: Mouser; Supplier Part Number 1: 726-IPD70N10S312; Supplier 2: Digi-Key; Supplier Part Number 2: IPD70N10S3-12TR-ND; Supplier 3: Digi-Key; Supplier Part Number 3: IPD70N10S3-12CT-ND; Supplier 4: Digi-Key; Supplier Part Number 4: IPD70N10S3-12DKR-ND; Halogen-free: TRUE; Packing: Reel; Technology: OptiMOS-T; Mounting Technology: Surface Mount; ComponentLink1Description: Manufacturer URL; ComponentLink1URL: http://www.infineon.com/; ComponentLink2Description: Datasheet; ComponentLink2URL: http://www.infineon.com/dgdl/IPD70N10S3-12_DS_1_1.pdf?folderId=db3a3043156fd5730115c7d50620107c&fileId=db3a30431a5c32f2011a908858535951&location=en.Products.Automotive_ICs.Automotive_MOSFETs.Single__N-Channel_100V_MOSFETs.DATASHEET.IPD70N10S3-12_DS_1_1.pdf; ComponentLink3Description: Package Specification; ComponentLink3URL: http://www.infineon.com/dgdl/BTS142_DS_13.pdf?folderId=db3a3043163797a6011667aa084c0e01&fileId=db3a3043163797a6011667ac98be0e02&location=en.Products.Automotive_ICs.Smart_High-_and_Low-Side_Switches.HITFET___TEMPFET__-_Smart_Low-Side_Switches.DATASHEET.BTS142_DS_13.pdf
footprint INF-PG-TO252-3-11_N (DPAK, 3-Leads, Body 6.5x6.12mm, Pitch 2.28mm, IPC Medium Density)
footprint INF-PG-TO252-3-11_L (DPAK, 3-Leads, Body 6.5x6.12mm, Pitch 2.28mm, IPC High Density)
footprint INF-PG-TO252-3-11_M (DPAK, 3-Leads, Body 6.5x6.12mm, Pitch 2.28mm, IPC Low Density)
pins: 1 GATE, 2 DRAIN, 3 SOURCE

## IPD70N10S3L-12
designator Q?
OptiMOS-T Power-Transistor, 100 V VDS, 70 A ID, PG-TO252-3-11, Reel, Green; Manufacturer: Infineon; PartNumber: IPD70N10S3L-12; Green: TRUE; ID (max): 70 A; IDpuls (max): 280 A; Ptot (max): 125 W; QG: 59 nC; RDS (on) (max) (@10V): 11.5 mOhm; RDS (on) (max) (@4.5V): 15.2 mOhm; RthJC (max): 1.2 K/W; VDS (max): 100 V; VGS(th) (max): 2.4 V; VGS(th) (min): 1.2 V; DatasheetVersion: Rev. 1.1; PackageVersion: Dec-06; PackageReference: PG-TO252-3-11; PackageDescription: 3-Pin Plastic (Green) Transistor Single Outline Package, 6.5 x 6.12 mm Body, 2.28 mm Pitch; Supplier 1: Mouser; Supplier Part Number 1: 726-IPD70N10S3L12; Supplier 2: Digi-Key; Supplier Part Number 2: IPD70N10S3L-12TR-ND; Supplier 3: Digi-Key; Supplier Part Number 3: IPD70N10S3L-12CT-ND; Supplier 4: Digi-Key; Supplier Part Number 4: IPD70N10S3L-12DKR-ND; Halogen-free: TRUE; Packing: Reel; Technology: OptiMOS-T; Mounting Technology: Surface Mount; ComponentLink1Description: Manufacturer URL; ComponentLink1URL: http://www.infineon.com/; ComponentLink2Description: Datasheet; ComponentLink2URL: http://www.infineon.com/dgdl/IPD70N10S3L-12_DS_1_1.pdf?folderId=db3a3043156fd5730115c7d50620107c&fileId=db3a3043183a955501188996d3f9675c&location=en.Products.Automotive_ICs.Automotive_MOSFETs.Single__N-Channel_100V_MOSFETs.DATASHEET.IPD70N10S3L-12_DS_1_1.pdf; ComponentLink3Description: Package Specification; ComponentLink3URL: http://www.infineon.com/dgdl/BTS142_DS_13.pdf?folderId=db3a3043163797a6011667aa084c0e01&fileId=db3a3043163797a6011667ac98be0e02&location=en.Products.Automotive_ICs.Smart_High-_and_Low-Side_Switches.HITFET___TEMPFET__-_Smart_Low-Side_Switches.DATASHEET.BTS142_DS_13.pdf
footprint INF-PG-TO252-3-11_N (DPAK, 3-Leads, Body 6.5x6.12mm, Pitch 2.28mm, IPC Medium Density)
footprint INF-PG-TO252-3-11_L (DPAK, 3-Leads, Body 6.5x6.12mm, Pitch 2.28mm, IPC High Density)
footprint INF-PG-TO252-3-11_M (DPAK, 3-Leads, Body 6.5x6.12mm, Pitch 2.28mm, IPC Low Density)
pins: 1 GATE, 2 DRAIN, 3 SOURCE

## IPD70P04P4-09
designator Q?
OptiMOS-P2 Power-Transistor, -40 V VDS, -73 A ID, PG-TO252-3-313, Reel, Green; Manufacturer: Infineon; PartNumber: IPD70P04P4-09; Green: TRUE; ID (max): -73 A; IDpuls (max): -292 A; Ptot (max): 75 W; QG: 54 nC; RDS (on) (max) (@10V): 8.9 mOhm; RthJC (max): 2 K/W; VDS (max): -40 V; VGS(th) (max): -4 V; VGS(th) (min): -2 V; DatasheetVersion: Rev. 1.0; PackageVersion: Oct-10; PackageReference: PG-TO252-3-313; PackageDescription: 3-Pin Plastic (Green) Transistor Single Outline Package, 6.5 x 6.12 mm Body, 2.28 mm Pitch; Supplier 1: Mouser; Supplier Part Number 1: 726-IPD70P04P4-09; Halogen-free: TRUE; Packing: Reel; Technology: OptiMOS-P2; Mounting Technology: Surface Mount; ComponentLink1Description: Manufacturer URL; ComponentLink1URL: http://www.infineon.com/; ComponentLink2Description: Datasheet; ComponentLink2URL: http://www.infineon.com/dgdl/IPD70P04P4-09_DS_10.pdf?folderId=db3a304412b407950112b42b75b74520&fileId=db3a304329a0f6ee0129db9c0b0b5c51&location=en.Products.Automotive_ICs.Automotive_MOSFETs.Single__P-Channel_40V_MOSFETs.DATASHEET.IPD70P04P4-09_DS_10.pdf; ComponentLink3Description: Package Specification; ComponentLink3URL: http://www.infineon.com/dgdl/PG-TO252-3-313-Package_Overview.pdf?folderId=db3a30432b57a660012b81890ade72d2&fileId=db3a30432b57a660012b8193af2872eb
footprint INF-PG-TO252-3-313_N (DPAK, 3-Leads, Body 6.5x6.12mm, Pitch 2.28mm, IPC Medium Density)
footprint INF-PG-TO252-3-313_L (DPAK, 3-Leads, Body 6.5x6.12mm, Pitch 2.28mm, IPC High Density)
footprint INF-PG-TO252-3-313_M (DPAK, 3-Leads, Body 6.5x6.12mm, Pitch 2.28mm, IPC Low Density)
pins: 1 GATE, 2 DRAIN, 3 SOURCE

## IPD70P04P4L-08
designator Q?
OptiMOS-P2 Power-Transistor, -40 V VDS, -70 A ID, PG-TO252-3-313, Reel, Green; Manufacturer: Infineon; PartNumber: IPD70P04P4L-08; Green: TRUE; ID (max): -70 A; IDpuls (max): -280 A; Ptot (max): 75 W; QG: 71 nC; RDS (on) (max) (@10V): 7.8 mOhm; RDS (on) (max) (@4.5V): 12.9 mOhm; RthJC (max): 2 K/W; VDS (max): -40 V; VGS(th) (max): -2.2 V; VGS(th) (min): -1.2 V; DatasheetVersion: Rev. 1.1; PackageVersion: Oct-10; PackageReference: PG-TO252-3-313; PackageDescription: 3-Pin Plastic (Green) Transistor Single Outline Package, 6.5 x 6.12 mm Body, 2.28 mm Pitch; Supplier 1: Mouser; Supplier Part Number 1: 726-IPD70P04P4L-08; Halogen-free: TRUE; Packing: Reel; Technology: OptiMOS-P2; Mounting Technology: Surface Mount; ComponentLink1Description: Manufacturer URL; ComponentLink1URL: http://www.infineon.com/; ComponentLink2Description: Datasheet; ComponentLink2URL: http://www.infineon.com/dgdl/IPD70P04P4L-08_DS_1_1.pdf?folderId=db3a304412b407950112b42b75b74520&fileId=db3a30432f69f146012f78225bd32dbf&location=en.Products.Automotive_ICs.Automotive_MOSFETs.Single__P-Channel_40V_MOSFETs.DATASHEET.IPD70P04P4L-08_DS_1_1.pdf; ComponentLink3Description: Package Specification; ComponentLink3URL: http://www.infineon.com/dgdl/PG-TO252-3-313-Package_Overview.pdf?folderId=db3a30432b57a660012b81890ade72d2&fileId=db3a30432b57a660012b8193af2872eb
footprint INF-PG-TO252-3-313_N (DPAK, 3-Leads, Body 6.5x6.12mm, Pitch 2.28mm, IPC Medium Density)
footprint INF-PG-TO252-3-313_L (DPAK, 3-Leads, Body 6.5x6.12mm, Pitch 2.28mm, IPC High Density)
footprint INF-PG-TO252-3-313_M (DPAK, 3-Leads, Body 6.5x6.12mm, Pitch 2.28mm, IPC Low Density)
pins: 1 GATE, 2 DRAIN, 3 SOURCE

## IPD075N03L G
designator Q?
N-Channel OptiMOS 3 Power-Transistor, 30 V VDS, 50 A ID, -55 to 175 degC, PG-TO252-3-11, Reel, Green; Manufacturer: Infineon; PartNumber: IPD075N03L G; Green: TRUE; ID (max): 50 A; IDpuls (max): 350 A; Polarity: N; Ptot (max): 47 W; QG: 18 nC; RDS (on) (max): 7.5 mOhm; RDS (on) (max) (@4.5V): 11.4 mOhm; Rth: 3.2 K/W; RthJA (max): 75 K/W; VDS (max): 30 V; VGS(th) (max): 2.2 V; VGS(th) (min): 1 V; DatasheetVersion: Rev. 1.1; PackageVersion: Rev. 02, 03/2007; PackageReference: PG-TO252-3-11; PackageDescription: 3-Pin Plastic (Green) Transistor Single Outline Package, 6.57 x 6.1 mm Body, 2.29 mm Pitch; Supplier 1: Newark; Supplier Part Number 1: 60R2694; Supplier 2: Farnell; Supplier Part Number 2: 1775576; Supplier 3: Digi-Key; Supplier Part Number 3: IPD075N03LGINTR-ND; Supplier 4: Digi-Key; Supplier Part Number 4: IPD075N03LGINCT-ND; Supplier 5: Digi-Key; Supplier Part Number 5: IPD075N03LGINDKR-ND; Halogen-free: TRUE; Packing: Reel; RthJC (max): 3.2 K/W; Mounting Technology: Surface Mount; ComponentLink1Description: Manufacturer URL; ComponentLink1URL: http://www.infineon.com/; ComponentLink2Description: Datasheet; ComponentLink2URL: http://www.infineon.com/dgdl/IPD075N03LG_rev1%5B1%5D.1.pdf?folderId=db3a304313b8b5a60113cee8763b02d7&fileId=db3a30432313ff5e01239e56990c7047; ComponentLink3Description: Package Specification; ComponentLink3URL: http://www.infineon.com/dgdl/IPD160N04L_rev1.0.pdf?folderId=db3a3043163797a6011643468e7505a4&fileId=db3a3043163797a60116436401cf05cf
footprint INF-PG-TO252-3-11_A_N (DPAK, 3-Leads, Body 6.57x6.1mm, Pitch 2.29mm, IPC Medium Density)
footprint INF-PG-TO252-3-11_A_L (DPAK, 3-Leads, Body 6.57x6.1mm, Pitch 2.29mm, IPC High Density)
footprint INF-PG-TO252-3-11_A_M (DPAK, 3-Leads, Body 6.57x6.1mm, Pitch 2.29mm, IPC Low Density)
pins: 1 GATE, 2 DRAIN, 3 SOURCE

## IPD75N04S4-06
designator Q?
OptiMOS-T2 Power-Transistor, 40 V VDS, 75 A ID, PG-TO252-3-313, Reel, Green; Manufacturer: Infineon; PartNumber: IPD75N04S4-06; Green: TRUE; ID (max): 75 A; IDpuls (max): 300 A; Ptot (max): 58 W; QG: 24.5 nC; RDS (on) (max) (@10V): 5.9 mOhm; RthJC (max): 2.6 K/W; VDS (max): 40 V; VGS(th) (max): 4 V; VGS(th) (min): 2 V; DatasheetVersion: Rev. 1.1; PackageVersion: Oct-10; PackageReference: PG-TO252-3-313; PackageDescription: 3-Pin Plastic (Green) Transistor Single Outline Package, 6.5 x 6.12 mm Body, 2.28 mm Pitch; Supplier 1: Mouser; Supplier Part Number 1: 726-IPD75N04S4-06; Supplier 2: Digi-Key; Supplier Part Number 2: IPD75N04S4-06-ND; Halogen-free: TRUE; Packing: Reel; Technology: OptiMOS-T2; Mounting Technology: Surface Mount; ComponentLink1Description: Manufacturer URL; ComponentLink1URL: http://www.infineon.com/; ComponentLink2Description: Datasheet; ComponentLink2URL: http://www.infineon.com/dgdl/IPD75N04S4-06_DS_1_1.pdf?folderId=db3a304412b407950112b42b75b74520&fileId=db3a304328c6bd5c01291c8994c25e57&location=en.Products.Automotive_ICs.Automotive_MOSFETs.Single__N-Channel_40V_MOSFETs.DATASHEET.IPD75N04S4-06_DS_1_1.pdf; ComponentLink3Description: Package Specification; ComponentLink3URL: http://www.infineon.com/dgdl/PG-TO252-3-313-Package_Overview.pdf?folderId=db3a30432b57a660012b81890ade72d2&fileId=db3a30432b57a660012b8193af2872eb
footprint INF-PG-TO252-3-313_N (DPAK, 3-Leads, Body 6.5x6.12mm, Pitch 2.28mm, IPC Medium Density)
footprint INF-PG-TO252-3-313_L (DPAK, 3-Leads, Body 6.5x6.12mm, Pitch 2.28mm, IPC High Density)
footprint INF-PG-TO252-3-313_M (DPAK, 3-Leads, Body 6.5x6.12mm, Pitch 2.28mm, IPC Low Density)
pins: 1 GATE, 2 DRAIN, 3 SOURCE

## IPD78CN10N G
designator Q?
N-Channel OptiMOS 2 Power-Transistor, 100 V VDS, 13 A ID, -55 to 175 degC, PG-TO252-3-11, Reel, Green; Manufacturer: Infineon; PartNumber: IPD78CN10N G; Green: TRUE; ID (max): 13 A; IDpuls (max): 52 A; Polarity: N; Ptot (max): 31 W; QG: 8 nC; RDS (on) (max): 78 mOhm; Rth: 4.9 K/W; RthJA (max): 62 K/W; VDS (max): 100 V; VGS(th) (max): 4 V; VGS(th) (min): 2 V; DatasheetVersion: Rev. 1.09; PackageVersion: Rev. 02, 03/2007; PackageReference: PG-TO252-3-11; PackageDescription: 3-Pin Plastic (Green) Transistor Single Outline Package, 6.57 x 6.1 mm Body, 2.29 mm Pitch; Supplier 1: Mouser; Supplier Part Number 1: 726-IPD78CN10NG; Supplier 2: Digi-Key; Supplier Part Number 2: IPD78CN10N GTR-ND; Supplier 3: Digi-Key; Supplier Part Number 3: IPD78CN10N GCT-ND; Supplier 4: Digi-Key; Supplier Part Number 4: IPD78CN10N GDKR-ND; Packing: Reel; RthJC (max): 4.9 K/W; Mounting Technology: Surface Mount; ComponentLink1Description: Manufacturer URL; ComponentLink1URL: http://www.infineon.com/; ComponentLink2Description: Datasheet; ComponentLink2URL: http://www.infineon.com/dgdl/IPP80CN10N_Rev19.pdf?folderId=db3a304412b407950112b408e8c90004&fileId=db3a304412b407950112b42c2aaf468d; ComponentLink3Description: Package Specification; ComponentLink3URL: http://www.infineon.com/dgdl/IPD160N04L_rev1.0.pdf?folderId=db3a3043163797a6011643468e7505a4&fileId=db3a3043163797a60116436401cf05cf
footprint INF-PG-TO252-3-11_A_N (DPAK, 3-Leads, Body 6.57x6.1mm, Pitch 2.29mm, IPC Medium Density)
footprint INF-PG-TO252-3-11_A_L (DPAK, 3-Leads, Body 6.57x6.1mm, Pitch 2.29mm, IPC High Density)
footprint INF-PG-TO252-3-11_A_M (DPAK, 3-Leads, Body 6.57x6.1mm, Pitch 2.29mm, IPC Low Density)
pins: 1 GATE, 2 DRAIN, 3 SOURCE

## IPD079N06L3 G
designator Q?
N-Channel OptiMOS 3 Power-Transistor, 60 V VDS, 50 A ID, -55 to 175 degC, PG-TO252-3-11, Reel, Green; Manufacturer: Infineon; PartNumber: IPD079N06L3 G; Green: TRUE; ID (max): 50 A; IDpuls (max): 200 A; Polarity: N; Ptot (max): 79 W; QG: 22 nC; RDS (on) (max): 7.9 mOhm; RDS (on) (max) (@4.5V): 13.5 mOhm; Rth: 1.9 K/W; RthJA (max): 62 K/W; RthJC (max): 1.9 K/W; VDS (max): 60 V; VGS(th) (max): 2.2 V; VGS(th) (min): 1.2 V; DatasheetVersion: Rev. 2.0; PackageVersion: Rev. 02, 03/2007; PackageReference: PG-TO252-3-11; PackageDescription: 3-Pin Plastic (Green) Transistor Single Outline Package, 6.57 x 6.1 mm Body, 2.29 mm Pitch; Supplier 1: Mouser; Supplier Part Number 1: 726-IPD079N06L3G; Supplier 2: Newark; Supplier Part Number 2: 79X1435; Supplier 3: Farnell; Supplier Part Number 3: 2432728; Supplier 4: Digi-Key; Supplier Part Number 4: IPD079N06L3 GTR-ND; Supplier 5: Digi-Key; Supplier Part Number 5: IPD079N06L3 GCT-ND; Supplier 6: Digi-Key; Supplier Part Number 6: IPD079N06L3 GDKR-ND; Packing: Reel; Mounting Technology: Surface Mount; ComponentLink1Description: Manufacturer URL; ComponentLink1URL: http://www.infineon.com/; ComponentLink2Description: Datasheet; ComponentLink2URL: http://www.infineon.com/dgdl/IPD079N06L3_Rev2.pdf?folderId=db3a30431441fb5d01148ca9f1be0e77&fileId=db3a30431ddc9372011e2b5528634dc0; ComponentLink3Description: Package Specification; ComponentLink3URL: http://www.infineon.com/dgdl/IPD160N04L_rev1.0.pdf?folderId=db3a3043163797a6011643468e7505a4&fileId=db3a3043163797a60116436401cf05cf
footprint INF-PG-TO252-3-11_A_N (DPAK, 3-Leads, Body 6.57x6.1mm, Pitch 2.29mm, IPC Medium Density)
footprint INF-PG-TO252-3-11_A_L (DPAK, 3-Leads, Body 6.57x6.1mm, Pitch 2.29mm, IPC High Density)
footprint INF-PG-TO252-3-11_A_M (DPAK, 3-Leads, Body 6.57x6.1mm, Pitch 2.29mm, IPC Low Density)
pins: 1 GATE, 2 DRAIN, 3 SOURCE

## IPD80N04S3-06
designator Q?
OptiMOS-T Power-Transistor, 40 V VDS, 90 A ID, PG-TO252-3-11, Reel, Green; Manufacturer: Infineon; PartNumber: IPD80N04S3-06; Green: TRUE; ID (max): 90 A; IDpuls (max): 320 A; Ptot (max): 100 W; QG: 36 nC; RDS (on) (max) (@10V): 5.2 mOhm; RthJC (max): 1.5 K/W; VDS (max): 40 V; VGS(th) (max): 4 V; VGS(th) (min): 2.1 V; DatasheetVersion: Rev. 1.0; PackageVersion: Dec-06; PackageReference: PG-TO252-3-11; PackageDescription: 3-Pin Plastic (Green) Transistor Single Outline Package, 6.5 x 6.12 mm Body, 2.28 mm Pitch; Supplier 1: Mouser; Supplier Part Number 1: 726-IPD80N04S3-06; Supplier 2: Digi-Key; Supplier Part Number 2: IPD80N04S3-06TR-ND; Supplier 3: Digi-Key; Supplier Part Number 3: IPD80N04S3-06CT-ND; Supplier 4: Digi-Key; Supplier Part Number 4: IPD80N04S3-06DKR-ND; Halogen-free: TRUE; Packing: Reel; Technology: OptiMOS-T; Mounting Technology: Surface Mount; ComponentLink1Description: Manufacturer URL; ComponentLink1URL: http://www.infineon.com/; ComponentLink2Description: Datasheet; ComponentLink2URL: http://www.infineon.com/dgdl/IPD80N04S3-06_DS_1_0.pdf?folderId=db3a304412b407950112b42b75b74520&fileId=db3a304412b407950112b42ba80c45bb&location=en.Products.Automotive_ICs.Automotive_MOSFETs.Single__N-Channel_40V_MOSFETs.DATASHEET.IPD80N04S3-06_DS_1_0.pdf; ComponentLink3Description: Package Specification; ComponentLink3URL: http://www.infineon.com/dgdl/BTS142_DS_13.pdf?folderId=db3a3043163797a6011667aa084c0e01&fileId=db3a3043163797a6011667ac98be0e02&location=en.Products.Automotive_ICs.Smart_High-_and_Low-Side_Switches.HITFET___TEMPFET__-_Smart_Low-Side_Switches.DATASHEET.BTS142_DS_13.pdf
footprint INF-PG-TO252-3-11_N (DPAK, 3-Leads, Body 6.5x6.12mm, Pitch 2.28mm, IPC Medium Density)
footprint INF-PG-TO252-3-11_L (DPAK, 3-Leads, Body 6.5x6.12mm, Pitch 2.28mm, IPC High Density)
footprint INF-PG-TO252-3-11_M (DPAK, 3-Leads, Body 6.5x6.12mm, Pitch 2.28mm, IPC Low Density)
pins: 1 GATE, 2 DRAIN, 3 SOURCE

## IPD80P03P4L-07
designator Q?
OptiMOS-P2 Power-Transistor, -30 V VDS, -80 A ID, PG-TO252-3-11, Reel, Green; Manufacturer: Infineon; PartNumber: IPD80P03P4L-07; Green: TRUE; ID (max): -80 A; IDpuls (max): -320 A; Ptot (max): 88 W; QG: 63 nC; RDS (on) (max) (@10V): 6.8 mOhm; RDS (on) (max) (@4.5V): 12 mOhm; RthJC (max): 1.7 K/W; VDS (max): -30 V; VGS(th) (max): -2 V; VGS(th) (min): -1 V; DatasheetVersion: Rev. 1.0; PackageVersion: Dec-06; PackageReference: PG-TO252-3-11; PackageDescription: 3-Pin Plastic (Green) Transistor Single Outline Package, 6.5 x 6.12 mm Body, 2.28 mm Pitch; Supplier 1: Mouser; Supplier Part Number 1: 726-IPD80P03P4L07; Supplier 2: Digi-Key; Supplier Part Number 2: IPD80P03P4L-07INTR-ND; Supplier 3: Digi-Key; Supplier Part Number 3: IPD80P03P4L-07INCT-ND; Supplier 4: Digi-Key; Supplier Part Number 4: IPD80P03P4L-07INDKR-ND; Halogen-free: TRUE; Packing: Reel; Technology: OptiMOS-P2; Mounting Technology: Surface Mount; ComponentLink1Description: Manufacturer URL; ComponentLink1URL: http://www.infineon.com/; ComponentLink2Description: Datasheet; ComponentLink2URL: http://www.infineon.com/dgdl/IPD80P03P4L-07_DS_10.pdf?folderId=db3a304314dca3890114ef902baa05f9&fileId=db3a30431ed1d7b2011f366dae693f24&location=en.Products.Automotive_ICs.Automotive_MOSFETs.Single__P-Channel_30V_MOSFETs.DATASHEET.IPD80P03P4L-07_DS_10.pdf; ComponentLink3Description: Package Specification; ComponentLink3URL: http://www.infineon.com/dgdl/BTS142_DS_13.pdf?folderId=db3a3043163797a6011667aa084c0e01&fileId=db3a3043163797a6011667ac98be0e02&location=en.Products.Automotive_ICs.Smart_High-_and_Low-Side_Switches.HITFET___TEMPFET__-_Smart_Low-Side_Switches.DATASHEET.BTS142_DS_13.pdf
footprint INF-PG-TO252-3-11_N (DPAK, 3-Leads, Body 6.5x6.12mm, Pitch 2.28mm, IPC Medium Density)
footprint INF-PG-TO252-3-11_L (DPAK, 3-Leads, Body 6.5x6.12mm, Pitch 2.28mm, IPC High Density)
footprint INF-PG-TO252-3-11_M (DPAK, 3-Leads, Body 6.5x6.12mm, Pitch 2.28mm, IPC Low Density)
pins: 1 GATE, 2 DRAIN, 3 SOURCE

## IPD80R1K0CE
designator Q?
N-Channel CoolMOS(TM) CE Power Transistor, 800 V VDS, 5.7 A ID, -55 to 150 degC, PG-TO252-3, Reel, Green; Manufacturer: Infineon; PartNumber: IPD80R1K0CE; Green: TRUE; ID (max): 5.7 A; IDpuls (max): 18 A; Polarity: FALSE; Ptot (max): 83 W; QG: 31 nC; RDS (on) (max): 950 mOhm; RthJA (max): 62 K/W; RthJC (max): 1.5 K/W; VDS (max): 800 V; VGS(th) (max): 3.9 V; VGS(th) (min): 2.1 V; DatasheetVersion: Rev. 2.1; PackageVersion: Rev. 02, 03/2007; PackageReference: PG-TO252-3-11_A; PackageDescription: 3-Pin Plastic (Green) Transistor Single Outline Package, 6.57 x 6.1 mm Body, 2.29 mm Pitch; Supplier 1: Mouser; Supplier Part Number 1: N/A; Halogen-free: TRUE; Mounting: SMT; Packing: Reel; Technology: CoolMOS(TM) CE; Mounting Technology: Surface Mount; ComponentLink1Description: Manufacturer URL; ComponentLink1URL: http://www.infineon.com/; ComponentLink2Description: Datasheet; ComponentLink2URL: http://www.infineon.com/dgdl/DS_IPX80R1K0CE_2_1.pdf?folderId=db3a3043156fd5730115c736bcc70ff2&fileId=db3a304340155f3d01402ebac5992590; ComponentLink3Description: Package Specification; ComponentLink3URL: http://www.infineon.com/dgdl/DS_IPX80R2K8CE_2_1.pdf?folderId=db3a3043156fd5730115c736bcc70ff2&fileId=db3a304340155f3d01402f5e5f1f274f
footprint INF-PG-TO252-3-11_A_N (DPAK, 3-Leads, Body 6.57x6.1mm, Pitch 2.29mm, IPC Medium Density)
footprint INF-PG-TO252-3-11_A_L (DPAK, 3-Leads, Body 6.57x6.1mm, Pitch 2.29mm, IPC High Density)
footprint INF-PG-TO252-3-11_A_M (DPAK, 3-Leads, Body 6.57x6.1mm, Pitch 2.29mm, IPC Low Density)
pins: 1 GATE, 2 DRAIN, 3 SOURCE

## IPD80R1K4CE
designator Q?
N-Channel CoolMOS(TM) CE Power Transistor, 800 V VDS, 3.9 A ID, -55 to 150 degC, PG-TO252-3, Reel, Green; Manufacturer: Infineon; PartNumber: IPD80R1K4CE; Green: TRUE; ID (max): 3.9 A; IDpuls (max): 12 A; Polarity: FALSE; Ptot (max): 63 W; QG: 23 nC; RDS (on) (max): 1,400 mOhm; RthJA (max): 62 K/W; RthJC (max): 2 K/W; VDS (max): 800 V; VGS(th) (max): 3.9 V; VGS(th) (min): 2.1 V; DatasheetVersion: Rev. 2.1; PackageVersion: Rev. 02, 03/2007; PackageReference: PG-TO252-3-11_A; PackageDescription: 3-Pin Plastic (Green) Transistor Single Outline Package, 6.57 x 6.1 mm Body, 2.29 mm Pitch; Supplier 1: Mouser; Supplier Part Number 1: N/A; Halogen-free: TRUE; Mounting: SMT; Packing: Reel; Technology: CoolMOS(TM) CE; Mounting Technology: Surface Mount; ComponentLink1Description: Manufacturer URL; ComponentLink1URL: http://www.infineon.com/; ComponentLink2Description: Datasheet; ComponentLink2URL: http://www.infineon.com/dgdl/DS_IPX80R1K4CE_2_1.pdf?folderId=db3a3043156fd5730115c736bcc70ff2&fileId=db3a304340155f3d01402f3b471926eb; ComponentLink3Description: Package Specification; ComponentLink3URL: http://www.infineon.com/dgdl/DS_IPX80R2K8CE_2_1.pdf?folderId=db3a3043156fd5730115c736bcc70ff2&fileId=db3a304340155f3d01402f5e5f1f274f
footprint INF-PG-TO252-3-11_A_N (DPAK, 3-Leads, Body 6.57x6.1mm, Pitch 2.29mm, IPC Medium Density)
footprint INF-PG-TO252-3-11_A_L (DPAK, 3-Leads, Body 6.57x6.1mm, Pitch 2.29mm, IPC High Density)
footprint INF-PG-TO252-3-11_A_M (DPAK, 3-Leads, Body 6.57x6.1mm, Pitch 2.29mm, IPC Low Density)
pins: 1 GATE, 2 DRAIN, 3 SOURCE

## IPD80R2K8CE
designator Q?
N-Channel CoolMOS(TM) CE Power Transistor, 800 V VDS, 1.9 A ID, -55 to 150 degC, PG-TO252-3, Reel, Green; Manufacturer: Infineon; PartNumber: IPD80R2K8CE; Green: TRUE; ID (max): 1.9 A; IDpuls (max): 6 A; Polarity: FALSE; Ptot (max): 42 W; QG: 12 nC; RDS (on) (max): 2,800 mOhm; RthJA (max): 62 K/W; RthJC (max): 3 K/W; VDS (max): 800 V; VGS(th) (max): 3.9 V; VGS(th) (min): 2.1 V; DatasheetVersion: Rev. 2.1; PackageVersion: Rev. 02, 03/2007; PackageReference: PG-TO252-3-11_A; PackageDescription: 3-Pin Plastic (Green) Transistor Single Outline Package, 6.57 x 6.1 mm Body, 2.29 mm Pitch; Supplier 1: Mouser; Supplier Part Number 1: N/A; Halogen-free: TRUE; Mounting: SMT; Packing: Reel; Technology: CoolMOS(TM) CE; Mounting Technology: Surface Mount; ComponentLink1Description: Manufacturer URL; ComponentLink1URL: http://www.infineon.com/; ComponentLink2Description: Datasheet; ComponentLink2URL: http://www.infineon.com/dgdl/DS_IPX80R2K8CE_2_1.pdf?folderId=db3a3043156fd5730115c736bcc70ff2&fileId=db3a304340155f3d01402f5e5f1f274f; ComponentLink3Description: Package Specification; ComponentLink3URL: http://www.infineon.com/dgdl/DS_IPX80R2K8CE_2_1.pdf?folderId=db3a3043156fd5730115c736bcc70ff2&fileId=db3a304340155f3d01402f5e5f1f274f
footprint INF-PG-TO252-3-11_A_N (DPAK, 3-Leads, Body 6.57x6.1mm, Pitch 2.29mm, IPC Medium Density)
footprint INF-PG-TO252-3-11_A_L (DPAK, 3-Leads, Body 6.57x6.1mm, Pitch 2.29mm, IPC High Density)
footprint INF-PG-TO252-3-11_A_M (DPAK, 3-Leads, Body 6.57x6.1mm, Pitch 2.29mm, IPC Low Density)
pins: 1 GATE, 2 DRAIN, 3 SOURCE